# EAGLE library part JTAG10 (library jtag)
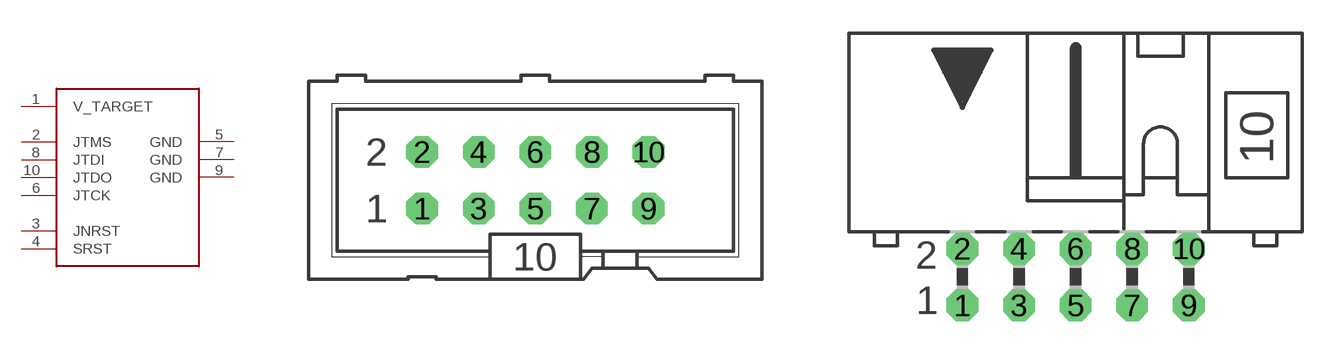
[diagram p1: symbol with the pads of ML10; footprints ML10, ML10L]

Designator prefix X

## JTAG10GERADE  [ML10]
1  V_TARGET
2  JTMS
3  JNRST
4  SRST
5  GND
6  JTCK
7  GND
8  JTDI
9  GND
10  JTDO

## JTAG10GEWINKELT  [ML10L]
Pads as for ML10

## JTAG10OHNE-GEHAEUSE  [ML10_NOHOUSE]
Pads as for ML10

## Footprint ML10 (pad centres in mm)
HARTING
drill 0.914 octagon: 1 -5.08,-1.27; 2 -5.08,1.27; 3 -2.54,-1.27; 4 -2.54,1.27; 5 0,-1.27; 6 0,1.27; 7 2.54,-1.27; 8 2.54,1.27; 9 5.08,-1.27; 10 5.08,1.27

## Footprint ML10L (pad centres in mm)
HARTING
drill 0.914 octagon: 1 -5.08,-1.27; 2 -5.08,1.27; 3 -2.54,-1.27; 4 -2.54,1.27; 5 0,-1.27; 6 0,1.27; 7 2.54,-1.27; 8 2.54,1.27; 9 5.08,-1.27; 10 5.08,1.27

## Footprint ML10_NOHOUSE (pad centres in mm)
drill 0.914 octagon: 1 -5.08,-1.27; 2 -5.08,1.27; 3 -2.54,-1.27; 4 -2.54,1.27; 5 0,-1.27; 6 0,1.27; 7 2.54,-1.27; 8 2.54,1.27; 9 5.08,-1.27; 10 5.08,1.27